# Altium schematic symbol library LCB50PB-M.SchLib: 1 symbol
Pins are listed as number, name and electrical type; pins without a type are passive.

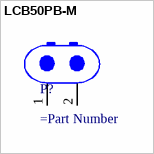
[diagram p0: symbol LCB50PB-M]

## LCB50PB-M
designator P?
=Description
pins: 1, 2